# EAGLE library part AD7846 (library 1A-meinLib)
LC2MOS 16-Bit Voltage Output DAC, Analog Device
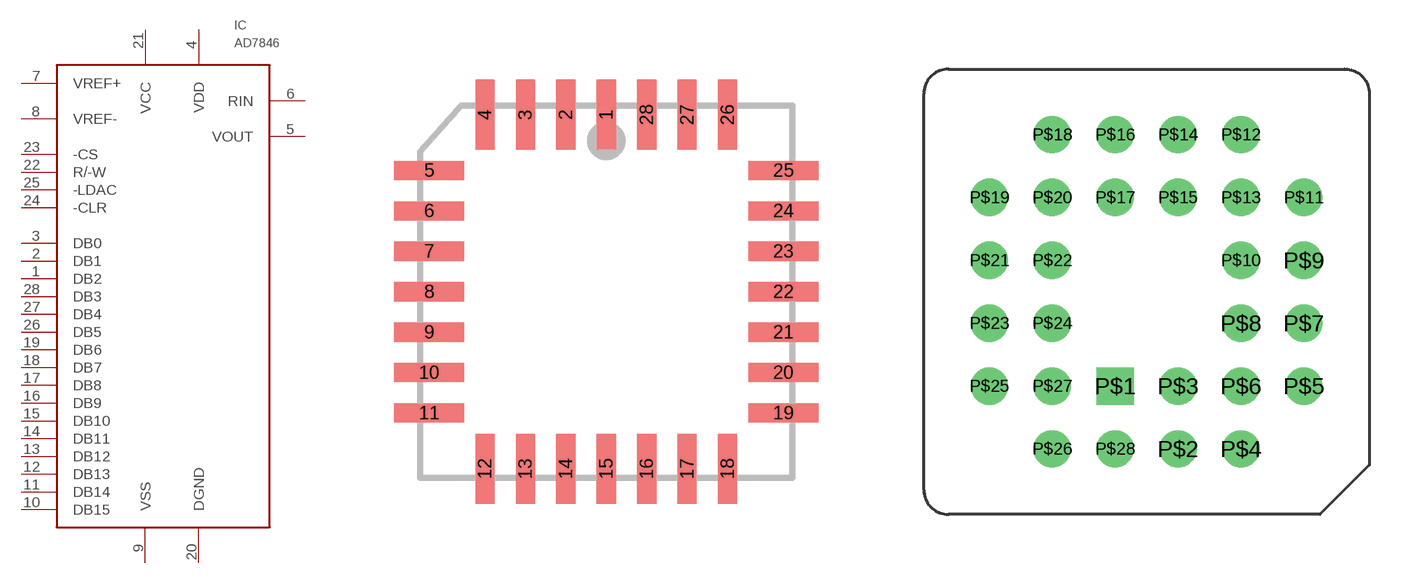
[diagram p159: symbol with the pads of PLCC28; footprints PLCC28, PLCC28-FASSUNG]

Designator prefix IC

## AD7846KP  [PLCC28]
1  DB2  in
2  DB1  in
3  DB0  in
4  VDD  pwr
5  VOUT  out
6  RIN  in
7  VREF+  in
8  VREF-  in
9  VSS  pwr
10  DB15  in
11  DB14  in
12  DB13  in
13  DB12  in
14  DB11  in
15  DB10  in
16  DB9  in
17  DB8  in
18  DB7  in
19  DB6  in
20  DGND  pwr
21  VCC  pwr
22  R/-W  in
23  -CS  in
24  -CLR  in
25  -LDAC  in
26  DB5  in
27  DB4  in
28  DB3  in

## AD7846KP-FASSUNG  [PLCC28-FASSUNG]
P$1  DB2  in
P$2  DB1  in
P$3  DB0  in
P$4  VDD  pwr
P$5  VOUT  out
P$6  RIN  in
P$7  VREF+  in
P$8  VREF-  in
P$9  VSS  pwr
P$10  DB15  in
P$11  DB14  in
P$12  DB13  in
P$13  DB12  in
P$14  DB11  in
P$15  DB10  in
P$16  DB9  in
P$17  DB8  in
P$18  DB7  in
P$19  DB6  in
P$20  DGND  pwr
P$21  VCC  pwr
P$22  R/-W  in
P$23  -CS  in
P$24  -CLR  in
P$25  -LDAC  in
P$26  DB5  in
P$27  DB4  in
P$28  DB3  in

## AD7846XN  [DIL28]
Pads as for PLCC28

## Footprint PLCC28 (pad centres in mm)
smd 0.6 x 2.2: 1 0,5.56; 2 -1.27,5.56; 3 -2.54,5.56; 4 -3.81,5.56; 12 -3.81,-5.56; 13 -2.54,-5.56; 14 -1.27,-5.56; 15 0,-5.56; 16 1.27,-5.56; 17 2.54,-5.56; 18 3.81,-5.56; 26 3.81,5.56; 27 2.54,5.56; 28 1.27,5.56
smd 2.2 x 0.6: 5 -5.56,3.81; 6 -5.56,2.54; 7 -5.56,1.27; 8 -5.56,0; 9 -5.56,-1.27; 10 -5.56,-2.54; 11 -5.56,-3.81; 19 5.56,-3.81; 20 5.56,-2.54; 21 5.56,-1.27; 22 5.56,0; 23 5.56,1.27; 24 5.56,2.54; 25 5.56,3.81

## Footprint PLCC28-FASSUNG (pad centres in mm)
drill 1 square: P$1 -1.27,-3.81
drill 1 round: P$2 1.27,-6.35; P$3 1.27,-3.81; P$4 3.81,-6.35; P$5 6.35,-3.81; P$6 3.81,-3.81; P$7 6.35,-1.27; P$8 3.81,-1.27; P$9 6.35,1.27; P$10 3.81,1.27; P$11 6.35,3.81; P$12 3.81,6.35; P$13 3.81,3.81; P$14 1.27,6.35; P$15 1.27,3.81; P$16 -1.27,6.35; P$17 -1.27,3.81; P$18 -3.81,6.35; P$19 -6.35,3.81; P$20 -3.81,3.81; P$21 -6.35,1.27; P$22 -3.81,1.27; P$23 -6.35,-1.27; P$24 -3.81,-1.27; P$25 -6.35,-3.81; P$26 -3.81,-6.35; P$27 -3.81,-3.81; P$28 -1.27,-6.35

## Footprint DIL28 (pad centres in mm)
drill 0.813 long: 1 -15.24,-7.62; 2 -12.7,-7.62; 3 -10.16,-7.62; 4 -7.62,-7.62; 5 -5.08,-7.62; 6 -2.54,-7.62; 7 0,-7.62; 8 2.54,-7.62; 9 5.08,-7.62; 10 7.62,-7.62; 11 10.16,-7.62; 12 12.7,-7.62; 13 15.24,-7.62; 14 17.78,-7.62; 15 17.78,7.62; 16 15.24,7.62; 17 12.7,7.62; 18 10.16,7.62; 19 7.62,7.62; 20 5.08,7.62; 21 2.54,7.62; 22 0,7.62; 23 -2.54,7.62; 24 -5.08,7.62; 25 -7.62,7.62; 26 -10.16,7.62; 27 -12.7,7.62; 28 -15.24,7.62